# Altium footprint library 7499410213.PcbLib: 1 footprints
Each footprint in its own frame and in the unit in brackets; x right, y up, seen from the top. Pads: shape width x height; smd on the part's side, far side on the other; paste and mask are expansions set on the pad; w line width, h text height; cw(c..) or ccw(c..) is an arc to the next point about the centre after c.
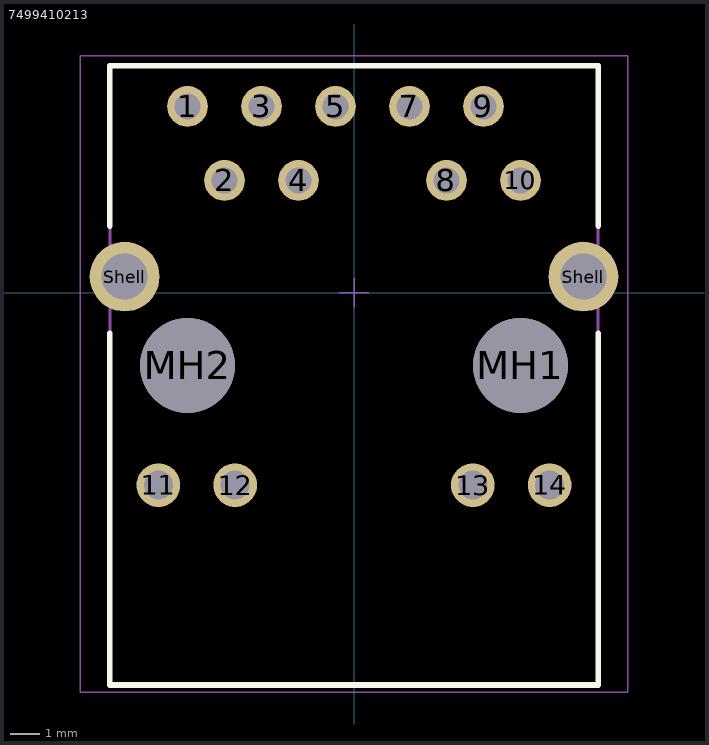
[diagram p0: the footprint, top view; thin cyan lines are the x and y axes]

## 7499410213 [mm]
pads (17):
  round 1.4 hole 0.89 paste-2222: 1(-5.715,6.39) 2(-4.445,3.85) 3(-3.175,6.39) 4(-1.905,3.85) 5(-0.635,6.39) 7(1.905,6.39) 8(3.175,3.85) 9(4.445,6.39) 10(5.715,3.85)
  round 1.5 hole 1 paste-2222: 11(-6.715,-6.61) 12(-4.08,-6.61) 13(4.08,-6.61) 14(6.715,-6.61)
  round 3.25 hole 3.25 unplated paste-2222: MH1(5.715,-2.5) MH2(-5.715,-2.5)
  round 2.4 hole 1.57 paste-2222: Shell(-7.875,0.55) Shell(7.875,0.55)
Top Overlay:
  lines w0.2: -8.382,-1.397 -8.382,-13.465 8.382,-13.465 8.382,-1.397 ; -8.382,2.286 -8.382,7.785 8.382,7.785 8.382,2.286
Top Component Outline:
  lines w0.1: -8.382,-13.462 -8.382,7.785 8.382,7.785 8.382,-13.462 -8.382,-13.462
Top Courtyard:
  lines w0.05: -9.398,-13.716 -9.398,8.128 9.398,8.128 9.398,-13.716 -9.398,-13.716
Bottom Courtyard:
  lines w0.05: -0.5,0 0.5,0 ; 0,-0.5 0,0.5
3D body "Download_STP_WE-RJ45LAN-7499410213 (rev1).stp": height 13.7, standoff -3.4, extent -8.15,-13.465 8.15,7.785